# Altium schematic symbol library BEE-1012 PAY-EXP_V110.SCHLIB: 128 symbols (part 2 of 2)
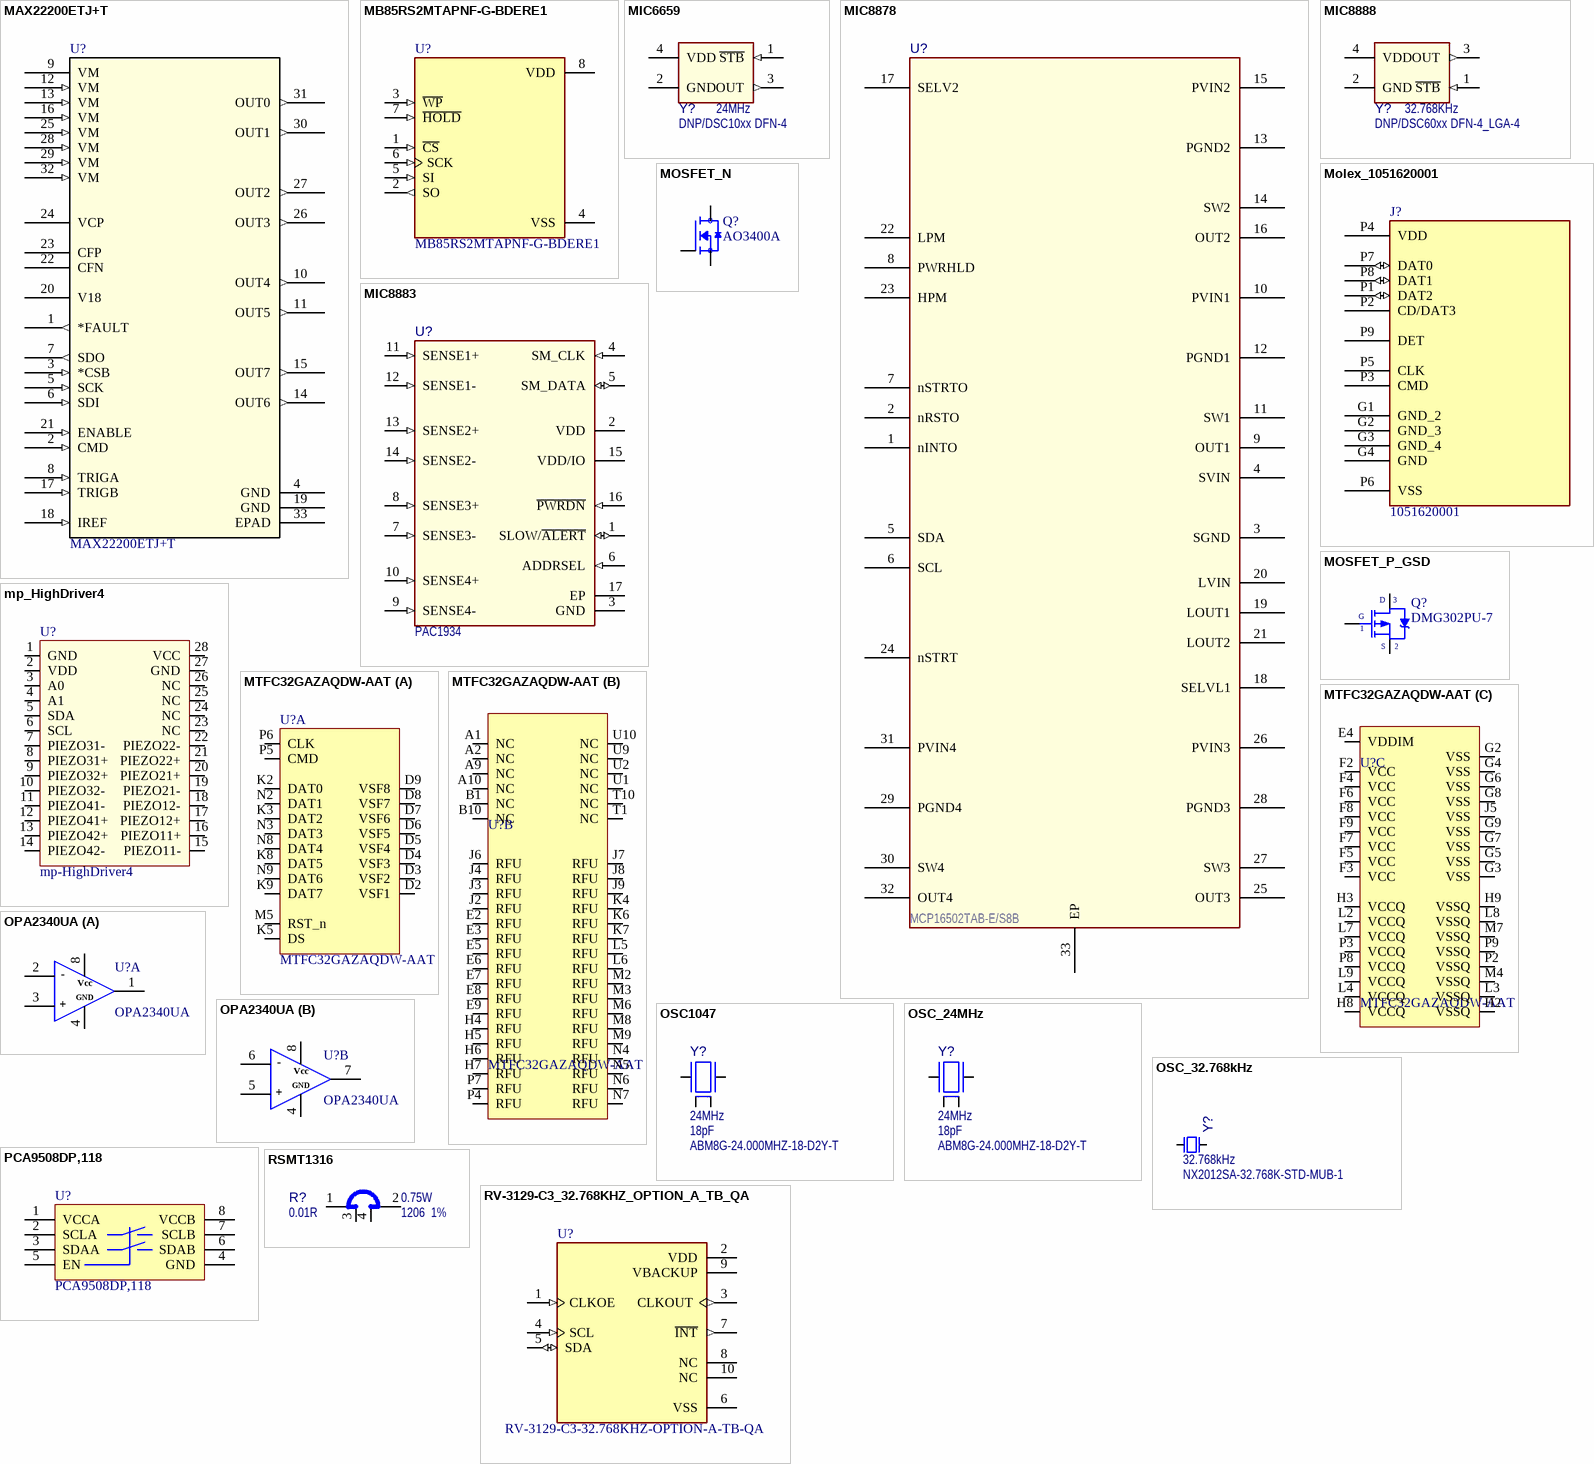
[diagram p6: symbols MAX22200ETJ+T to RV-3129-C3_32.768KHZ_OPTION_A_TB_QA]

## Molex_1051620001
designator J?, comment 1051620001
9 (8 + 1) Position Card Connector Secure Digital - microSDâ„¢ Surface Mount, Right Angle Gold; MF: Molex; SnapEDA_Link: https://www.snapeda.com/parts/1051620001/Molex/view-part/?ref=snap; Package: None; Value: *; MP: 1051620001; Check_prices: https://www.snapeda.com/parts/1051620001/Molex/view-part/?ref=eda
footprint Molex_1051620001
pins: G1 GND_2, G2 GND_3, G3 GND_4, G4 GND, P1 DAT2 (io), P2 CD/DAT3, P3 CMD, P4 VDD (power), P5 CLK, P6 VSS, P7 DAT0 (io), P8 DAT1 (io), P9 DET

## MOSFET_N
designator Q?, comment AO3400A
N-Channel 30 V 5.7A (Ta) 1.4W (Ta) Surface Mount SOT-23-3; MF: Alpha & Omega Semiconductor; SnapEDA_Link: https://www.snapeda.com/parts/AO3400A/Alpha/view-part/?ref=snap; Package: SOT-23 Alpha &amp; Omega Semiconductor Inc.; Value: *; MP: AO3400A; Check_prices: https://www.snapeda.com/parts/AO3400A/Alpha/view-part/?ref=eda
footprint SOT95P240X120-3N
pins: 1 G, 2 S, 3 D

## MOSFET_P_GSD
designator Q?, comment DMG302PU-7
footprint TO252-123
footprint SOT23-3-123
footprint SOT95P240X120-3N
footprint SOT23-3-213
pins: 1 G, 2 S, 3 D

## mp_HighDriver4
designator U?, comment mp-HighDriver4
footprint MP_HIGHDRIVER4
pins: 1 GND (power), 2 VDD (power), 3 A0, 4 A1, 5 SDA, 6 SCL, 7 PIEZO31-, 8 PIEZO31+, 9 PIEZO32+, 10 PIEZO32-, 11 PIEZO41-, 12 PIEZO41+, 13 PIEZO42+, 14 PIEZO42-, 15 PIEZO11-, 16 PIEZO11+, 17 PIEZO12+, 18 PIEZO12-, 19 PIEZO21-, 20 PIEZO21+, 21 PIEZO22+, 22 PIEZO22-, 23 NC, 24 NC, 25 NC, 26 NC, 27 GND (power), 28 VCC (power)

## MTFC32GAZAQDW-AAT
designator U?
footprint BGA_100_C_100P_10X17_1400X1800X150 (BGA, 100-Leads, Body 14.00x18.00mmx1.50mm, Pitch 1.00mm)
footprint BGA_100_C_100P_10X17_1400X1800X150 (BGA, 100-Leads, Body 14.00x18.00mmx1.50mm, Pitch 1.00mm)
part A pins: D2 VSF1, D3 VSF2, D4 VSF3, D5 VSF4, D6 VSF5, D7 VSF6, D8 VSF7, D9 VSF8, K2 DAT0, K3 DAT2, K5 DS, K8 DAT5, K9 DAT7, M5 RST_n, N2 DAT1, N3 DAT3, N8 DAT4, N9 DAT6, P5 CMD, P6 CLK
part B pins: A1 NC, A2 NC, A9 NC, A10 NC, B1 NC, B10 NC, E2 RFU, E3 RFU, E5 RFU, E6 RFU, E7 RFU, E8 RFU, E9 RFU, H4 RFU, H5 RFU, H6 RFU, H7 RFU, J2 RFU, J3 RFU, J4 RFU, J6 RFU, J7 RFU, J8 RFU, J9 RFU, K4 RFU, K6 RFU, K7 RFU, L5 RFU, L6 RFU, M2 RFU, M3 RFU, M6 RFU, M8 RFU, M9 RFU, N4 RFU, N5 RFU, N6 RFU, N7 RFU, P4 RFU, P7 RFU, T1 NC, T10 NC, U1 NC, U2 NC, U9 NC, U10 NC
part C pins: E4 VDDIM, F2 VCC, F3 VCC, F4 VCC, F5 VCC, F6 VCC, F7 VCC, F8 VCC, F9 VCC, G2 VSS, G3 VSS, G4 VSS, G5 VSS, G6 VSS, G7 VSS, G8 VSS, G9 VSS, H2 VSSQ, H3 VCCQ, H8 VCCQ, H9 VSSQ, J5 VSS, L2 VCCQ, L3 VSSQ, L4 VCCQ, L7 VCCQ, L8 VSSQ, L9 VCCQ, M4 VSSQ, M7 VSSQ, P2 VSSQ, P3 VCCQ, P8 VCCQ, P9 VSSQ

## OPA2340UA
designator U?
footprint SOIC127P602X173-8N
part A pins: 1, 2, 3, 4, 8
part B pins: 4, 5, 6, 7, 8
part A text: -; Vcc; GND; +
part B text: -; Vcc; GND; +

## OSC1047
designator Y?, comment value 24MHz  Load Capacitance: 18pF  Manufacturer Part Number 1: ABM8G-24.000MHZ-18-D2Y-T  (hidden comment: Crystal 4 Pins)
Crystal; Manufacturer 1: Abracon Corporation; MCHP-ID: OSC1047; Description_: CRYSTAL 24MHz 18pF SMD ABM8G; Dev Tools Status: Production; Owner: Mark Loper; Populated: DNP; Revision: 1; Symbol: Crystal 4 Pins; Status: MCL Design; ComponentLink1URL: https://chn-vm-apps.microchip.com/mchprepo/parts/Datasheets/ABM8G.pdf; ComponentLink1Description: SVN Datasheet; ComponentLink2URL: C:\ALTIUM_WORK\00001_MCHP-CDB\Datasheets\ABM8G.pdf; ComponentLink2Description: Local Datasheet; ComponentLink3URL: C:\ALTIUM_WORK\00001_MCHP-CDB\Library\LibraryRefs\Crystal 4 Pins.SchLib; ComponentLink3Description: Open Symbol; ComponentLink4URL: C:\ALTIUM_WORK\00001_MCHP-CDB\Library\Footprints\CRYSTAL_ABM8G.PcbLib; ComponentLink4Description: Open Footprint; ComponentLink5Description: Open Footprint 2; ComponentLink6Description: Open Footprint 3; ComponentLink7Description: Open Footprint 4; Package: ABM8G; Type: Crystal; Category: Crystal/Oscillator; Supplier 1: Digi-Key; Supplier Part Number 1: 535-10273-1-ND; Quantity Override: 1
footprint CRYSTAL_ABM8G
pins: 1 Osc1, 2 GND (power), 3 Osc2, 4 GND (power)

## OSC_24MHz
designator Y?, comment value 24MHz  Load Capacitance: 18pF  Manufacturer Part Number 1: ABM8G-24.000MHZ-18-D2Y-T  (hidden comment: Crystal 4 Pins)
Crystal; Manufacturer 1: Abracon Corporation; MCHP-ID: OSC1047; Description_: CRYSTAL 24MHz 18pF SMD ABM8G; Dev Tools Status: Production; Owner: Mark Loper; Populated: DNP; Revision: 1; Symbol: Crystal 4 Pins; Status: MCL Design; ComponentLink1URL: https://chn-vm-apps.microchip.com/mchprepo/parts/Datasheets/ABM8G.pdf; ComponentLink1Description: SVN Datasheet; ComponentLink2URL: C:\ALTIUM_WORK\00001_MCHP-CDB\Datasheets\ABM8G.pdf; ComponentLink2Description: Local Datasheet; ComponentLink3URL: C:\ALTIUM_WORK\00001_MCHP-CDB\Library\LibraryRefs\Crystal 4 Pins.SchLib; ComponentLink3Description: Open Symbol; ComponentLink4URL: C:\ALTIUM_WORK\00001_MCHP-CDB\Library\Footprints\CRYSTAL_ABM8G.PcbLib; ComponentLink4Description: Open Footprint; ComponentLink5Description: Open Footprint 2; ComponentLink6Description: Open Footprint 3; ComponentLink7Description: Open Footprint 4; Package: ABM8G; Type: Crystal; Category: Crystal/Oscillator; Supplier 1: Digi-Key; Supplier Part Number 1: 535-10273-1-ND; Quantity Override: 1
footprint CRYSTAL_ABM8G
pins: 1 Osc1, 2 GND (power), 3 Osc2, 4 GND (power)

## OSC_32.768kHz
designator Y?, comment value 32.768kHz  Manufacturer Part Number 1: NX2012SA-32.768K-STD-MUB-1  (hidden comment: Crystal 2 Pins)
Crystal; Manufacturer 1: NDK; MCHP-ID: OSC1092; Description_: CRYSTAL 32.768kHz 12.5pF SMD NX2012SA; Dev Tools Status: Production; Owner: Jamus Griego; Tolerance: ±20ppm; Load Capacitance: 12.5pF; Populated: YES; Revision: 1; Symbol: Crystal 2 Pins; Status: MCL Design; ComponentLink1URL: https://chn-vm-apps.microchip.com/mchprepo/parts/Datasheets/c_NX2012SA-STD-MUB-1_e.pdf; ComponentLink1Description: SVN Datasheet; ComponentLink2URL: C:\ALTIUM_WORK\00001_MCHP-CDB\Datasheets\c_NX2012SA-STD-MUB-1_e.pdf; ComponentLink2Description: Local Datasheet; ComponentLink3URL: C:\ALTIUM_WORK\00001_MCHP-CDB\Library\LibraryRefs\Crystal 2 Pins.SchLib; ComponentLink3Description: Open Symbol; ComponentLink4URL: C:\ALTIUM_WORK\00001_MCHP-CDB\Library\Footprints\CRYSTAL_NX2012SA.PcbLib; ComponentLink4Description: Open Footprint; ComponentLink5Description: Open Footprint 2; ComponentLink6Description: Open Footprint 3; ComponentLink7Description: Open Footprint 4; Type: Crystal; Category: Crystal/Oscillator; Supplier 1: Digi-Key; Supplier Part Number 1: 644-1219-1-ND; Quantity Override: 1
footprint CRYSTAL_NX2012SA
pins: 1 Osc1, 2 Osc2

## PCA9508DP,118
designator U?
footprint TSOP8 (TSOP, 8-Leads, Body 3x3mm, Pitch 0.65mm, IPC High Density)
footprint tssop8 (TSSOP, 8-Leads, Body 3.00x4.40mm, Pitch 0.65mm, IPC Medium Density)
pins: 1 VCCA, 2 SCLA, 3 SDAA, 4 GND, 5 EN, 6 SDAB, 7 SCLB, 8 VCCB

## RSMT1316
designator R?, comment value 0.01R  Package: 1206  Tolerance: 1%  Power: 0.75W  (hidden comment: KRL1632E-M-R010-F-T5)
Shunt; Manufacturer 1: SUSUMU; MCHP-ID: RSMT1316; Symbol: Shunt 4 Pin; Description_: RES SHUNT MF 0.01R 1% 0.75W SMD 1206; Dev Tools Status: Design; Temperature Coeffcient: 50ppm/C; Current: 8A; Owner: Ciprian Abramov; Populated: YES; Revision: 1; Status: MCL Design; ComponentLink1URL: https://chn-vm-apps.microchip.com/mchprepo/parts/Datasheets/n_catalog_partition09_en.pdf; ComponentLink1Description: SVN Datasheet; ComponentLink2URL: C:\ALTIUM_WORK\00001_MCHP-CDB\Datasheets\n_catalog_partition09_en.pdf; ComponentLink2Description: Local Datasheet; ComponentLink3URL: C:\ALTIUM_WORK\00001_MCHP-CDB\Library\LibraryRefs\Shunt 4 Pin.SchLib; ComponentLink3Description: Open Symbol; ComponentLink4URL: C:\ALTIUM_WORK\00001_MCHP-CDB\Library\Footprints\RES_C_1206_SHUNT.PcbLib; ComponentLink4Description: Open Footprint; ComponentLink5Description: Open Footprint 2; ComponentLink6Description: Open Footprint 3; ComponentLink7Description: Open Footprint 4; Operating Temperature: -55C to +155C; Category: Resistor; Type: RES SMD; Composition: MF; Manufacturer Part Number 1: KRL1632E-M-R010-F-T5; Supplier 1: Digi-Key; Supplier Part Number 1: 408-1570-1-ND; Quantity Override: 1
footprint RES_C_1206_SHUNT
pins: 1, 2, 3, 4

## RV-3129-C3_32.768KHZ_OPTION_A_TB_QA
designator U?, comment RV-3129-C3-32.768KHZ-OPTION-A-TB-QA
Real-Time Clock Module, Temperature compensated, in 2.5 x 3.7 mm package; MF: Micro Crystal; MP: RV-3129-C3 32.768KHZ OPTION A TB QA; SnapEDA_Link: https://www.snapeda.com/parts/RV-3129-C3%2032.768KHZ%20OPTION%20A%20TB%20QA/Micro+Crystal/view-part/?ref=snap; Package: QFN-10 Micro Crystal; Value: *; Check_prices: https://www.snapeda.com/parts/RV-3129-C3%2032.768KHZ%20OPTION%20A%20TB%20QA/Micro+Crystal/view-part/?ref=eda
footprint IC_RV-3129-C3_32.768KHZ_OPTION_A_TB_QA
pins: 1 CLKOE (in), 2 VDD (power), 3 CLKOUT (out), 4 SCL (in), 5 SDA (io), 6 VSS (power), 7 ~{INT} (out), 8 NC, 9 VBACKUP (power), 10 NC

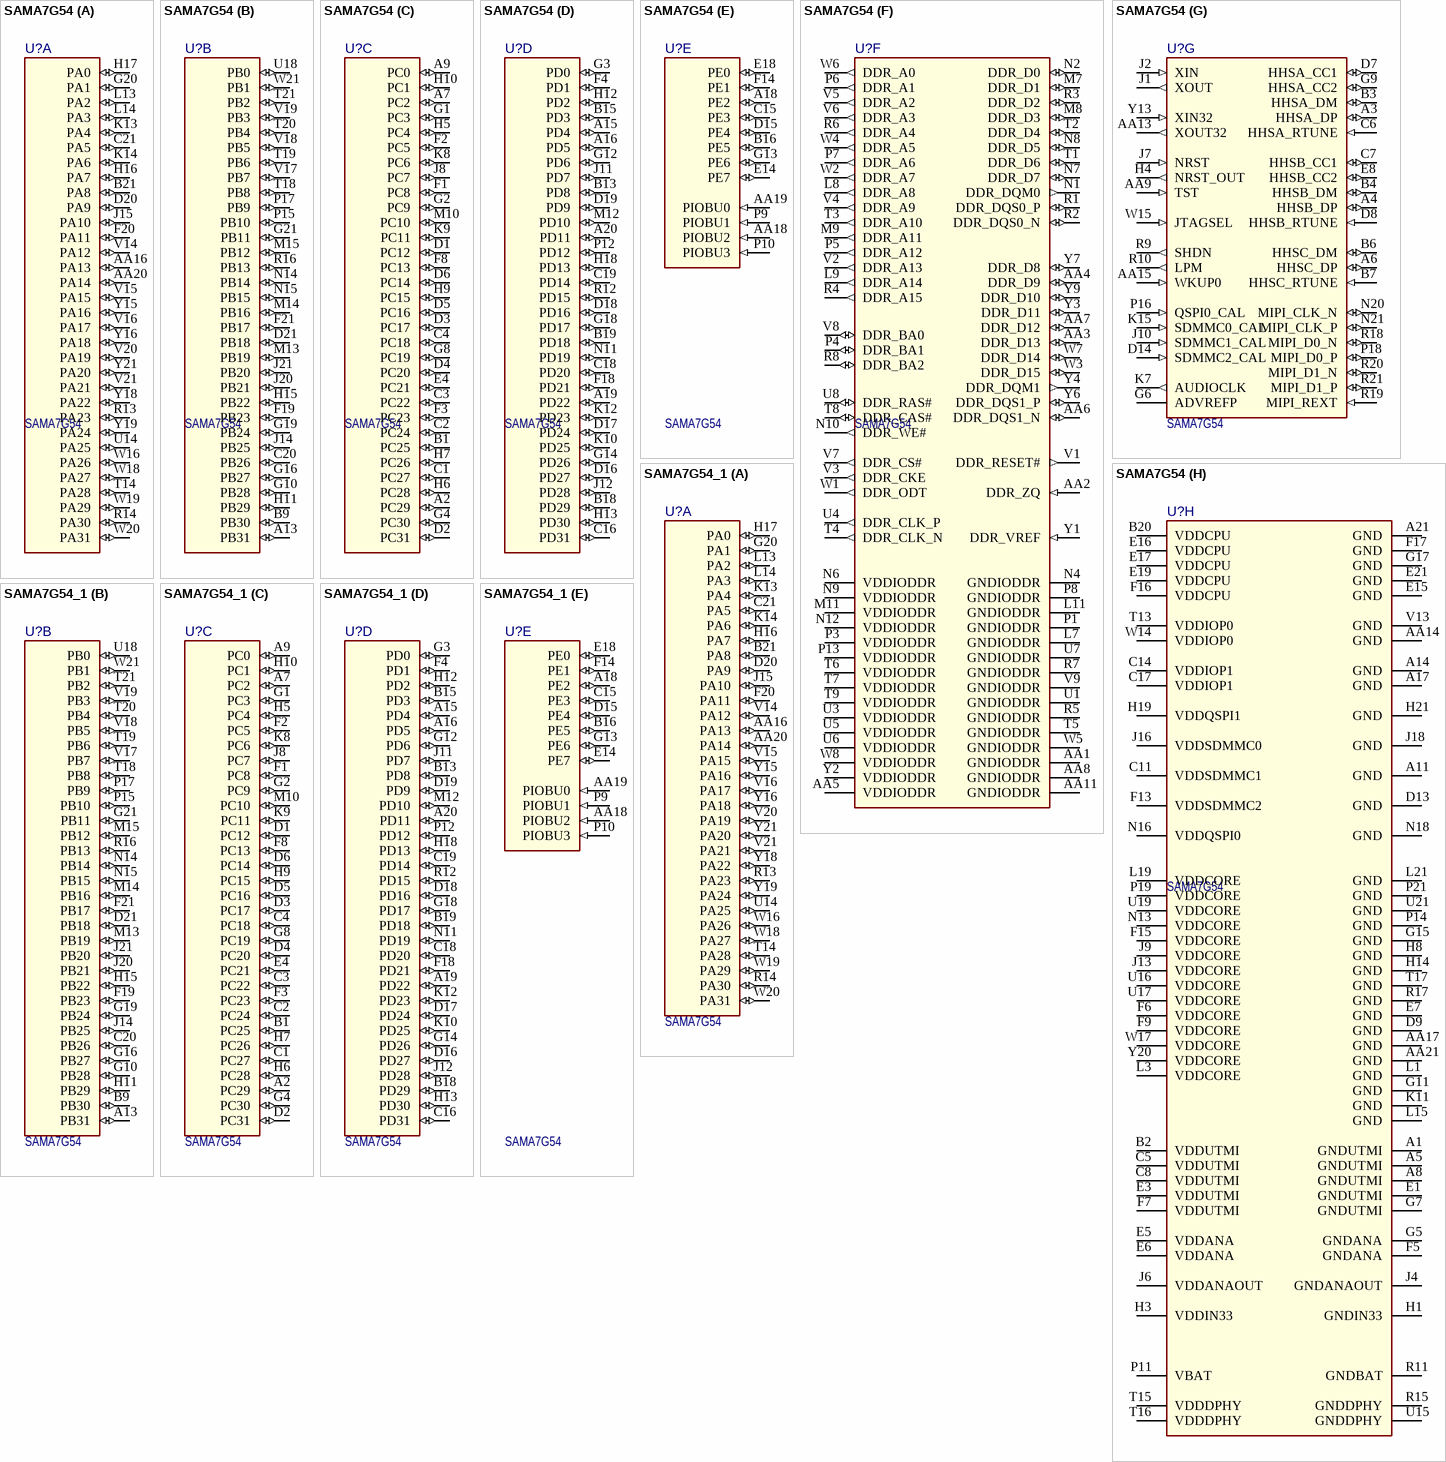
[diagram p4: symbols SAMA7G54 to SAMA7G54_1]

## SAMA7G54
designator U?
SAMA7G54 MPU 1000MHz Cortex-A7 TFBGA-343; Manufacturer Part Number 1: SAMA7G54-V/4HB; Manufacturer 1: Microchip; Description_: MCHP MPU 32-BIT Cortex-A7 1000MHz 128kB SAMA7G54-V/4HB TFBGA-343; Populated: YES; MCHP-ID: MIC8923; Symbol: SAMA7G54 TFBGA-343; Dev Tools Status: Design; Owner: Ciprian Abramov; Package: TFBGA-343; Value: SAMA7G54; Type: 32-Bit MPU; Status: MCL Design; Revision: 1; Category: MCHP-Microcontroller; ComponentLink1Description: SVN Datasheet; ComponentLink2Description: Local Datasheet; ComponentLink3URL: C:\ALTIUM_WORK\00001_MCHP-CDB\Library\LibraryRefs\SAMA7G54 TFBGA-343.SchLib; ComponentLink3Description: Open Symbol; ComponentLink4URL: C:\ALTIUM_WORK\00001_MCHP-CDB\Library\Footprints\TFBGA-343_14x14.PcbLib; ComponentLink4Description: Open Footprint; ComponentLink5Description: Open Footprint 2; ComponentLink6Description: Open Footprint 3; ComponentLink7Description: Open Footprint 4; Supplier 1: Microchip; Supplier Part Number 1: SAMA7G54-V/4HB; Quantity Override: 1
footprint TFBGA-343_14x14
footprint TFBGA-343_14x14 - 2.5mm (BGA, 343-Leads, Body 14,00mm x14,00mm, Pitch 0,65mm)
part A pins: AA16 PA13 (io), AA20 PA14 (io), B21 PA8 (io), C21 PA5 (io), D20 PA9 (io), F20 PA11 (io), G20 PA1 (io), H16 PA7 (io), H17 PA0 (io), J15 PA10 (io), K13 PA4 (io), K14 PA6 (io), L13 PA2 (io), L14 PA3 (io), R13 PA23 (io), R14 PA30 (io), T14 PA28 (io), U14 PA25 (io), V14 PA12 (io), V15 PA15 (io), V16 PA17 (io), V20 PA19 (io), V21 PA21 (io), W16 PA26 (io), W18 PA27 (io), W19 PA29 (io), W20 PA31 (io), Y15 PA16 (io), Y16 PA18 (io), Y18 PA22 (io), Y19 PA24 (io), Y21 PA20 (io)
part B pins: A13 PB31 (io), B9 PB30 (io), C20 PB26 (io), D21 PB18 (io), F19 PB23 (io), F21 PB17 (io), G10 PB28 (io), G16 PB27 (io), G19 PB24 (io), G21 PB11 (io), H11 PB29 (io), H15 PB22 (io), J14 PB25 (io), J20 PB21 (io), J21 PB20 (io), M13 PB19 (io), M14 PB16 (io), M15 PB12 (io), N14 PB14 (io), N15 PB15 (io), P15 PB10 (io), P17 PB9 (io), R16 PB13 (io), T18 PB8 (io), T19 PB6 (io), T20 PB4 (io), T21 PB2 (io), U18 PB0 (io), V17 PB7 (io), V18 PB5 (io), V19 PB3 (io), W21 PB1 (io)
part C pins: A2 PC29 (io), A7 PC2 (io), A9 PC0 (io), B1 PC25 (io), C1 PC27 (io), C2 PC24 (io), C3 PC22 (io), C4 PC18 (io), D1 PC12 (io), D2 PC31 (io), D3 PC17 (io), D4 PC20 (io), D5 PC16 (io), D6 PC14 (io), E4 PC21 (io), F1 PC8 (io), F2 PC5 (io), F3 PC23 (io), F8 PC13 (io), G1 PC3 (io), G2 PC9 (io), G4 PC30 (io), G8 PC19 (io), H5 PC4 (io), H6 PC28 (io), H7 PC26 (io), H9 PC15 (io), H10 PC1 (io), J8 PC7 (io), K8 PC6 (io), K9 PC11 (io), M10 PC10 (io)
part D pins: A15 PD4 (io), A16 PD5 (io), A19 PD22 (io), A20 PD11 (io), B13 PD8 (io), B15 PD3 (io), B18 PD29 (io), B19 PD18 (io), C16 PD31 (io), C18 PD20 (io), C19 PD14 (io), D16 PD27 (io), D17 PD24 (io), D18 PD16 (io), D19 PD9 (io), F4 PD1 (io), F18 PD21 (io), G3 PD0 (io), G12 PD6 (io), G14 PD26 (io), G18 PD17 (io), H12 PD2 (io), H13 PD30 (io), H18 PD13 (io), J11 PD7 (io), J12 PD28 (io), K10 PD25 (io), K12 PD23 (io), M12 PD10 (io), N11 PD19 (io), P12 PD12 (io), R12 PD15 (io)
part E pins: A18 PE2 (io), AA18 PIOBU2 (in), AA19 PIOBU0 (in), B16 PE5 (io), C15 PE3 (io), D15 PE4 (io), E14 PE7 (io), E18 PE0 (io), F14 PE1 (io), G13 PE6 (io), P9 PIOBU1 (in), P10 PIOBU3 (in)
part F pins: AA1 GNDIODDR (power), AA2 DDR_ZQ (in), AA3 DDR_D13 (io), AA4 DDR_D9 (io), AA5 VDDIODDR (power), AA6 DDR_DQS1_N (io), AA7 DDR_D12 (io), AA8 GNDIODDR (power), AA11 GNDIODDR (power), L7 GNDIODDR (power), L8 DDR_A8 (out), L9 DDR_A14 (out), L11 GNDIODDR (power), M7 DDR_D1 (io), M8 DDR_D3 (io), M9 DDR_A11 (out), M11 VDDIODDR (power), N1 DDR_DQM0 (out), N2 DDR_D0 (io), N4 GNDIODDR (power), N6 VDDIODDR (power), N7 DDR_D7 (io), N8 DDR_D5 (io), N9 VDDIODDR (power), N10 DDR_WE# (out), N12 VDDIODDR (power), P1 GNDIODDR (power), P3 VDDIODDR (power), P4 DDR_BA1 (io), P5 DDR_A12 (out), P6 DDR_A1 (out), P7 DDR_A6 (out), P8 GNDIODDR (power), P13 VDDIODDR (power), R1 DDR_DQS0_P (io), R2 DDR_DQS0_N (io), R3 DDR_D2 (io), R4 DDR_A15 (out), R5 GNDIODDR (power), R6 DDR_A4 (out), R7 GNDIODDR (power), R8 DDR_BA2 (io), T1 DDR_D6 (io), T2 DDR_D4 (io), T3 DDR_A10 (out), T4 DDR_CLK_N (out), T5 GNDIODDR (power), T6 VDDIODDR (power), T7 VDDIODDR (power), T8 DDR_CAS# (io), T9 VDDIODDR (power), U1 GNDIODDR (power), U3 VDDIODDR (power), U4 DDR_CLK_P (out), U5 VDDIODDR (power), U6 VDDIODDR (power), U7 GNDIODDR (power), U8 DDR_RAS# (io), V1 DDR_RESET# (out), V2 DDR_A13 (out), V3 DDR_CKE (out), V4 DDR_A9 (out), V5 DDR_A2 (out), V6 DDR_A3 (out), V7 DDR_CS# (out), V8 DDR_BA0 (io), V9 GNDIODDR (power), W1 DDR_ODT (out), W2 DDR_A7 (out), W3 DDR_D15 (io), W4 DDR_A5 (out), W5 GNDIODDR (power), W6 DDR_A0 (out), W7 DDR_D14 (io), W8 VDDIODDR (power), Y1 DDR_VREF (in), Y2 VDDIODDR (power), Y3 DDR_D11 (io), Y4 DDR_DQM1 (out), Y6 DDR_DQS1_P (io), Y7 DDR_D8 (io), Y9 DDR_D10 (io)
part G pins: A3 HHSA_DP (io), A4 HHSB_DP (io), A6 HHSC_DP (io), AA9 TST (in), AA13 XOUT32 (out), AA15 WKUP0 (in), B3 HHSA_DM (io), B4 HHSB_DM (io), B6 HHSC_DM (io), B7 HHSC_RTUNE (in), C6 HHSA_RTUNE (in), C7 HHSB_CC1 (io), D7 HHSA_CC1 (io), D8 HHSB_RTUNE (in), D14 SDMMC2_CAL (in), E8 HHSB_CC2 (io), G6 ADVREFP (power), G9 HHSA_CC2 (io), H4 NRST_OUT (out), J1 XOUT (out), J2 XIN (in), J7 NRST (in), J10 SDMMC1_CAL (in), K7 AUDIOCLK (out), K15 SDMMC0_CAL (in), N20 MIPI_CLK_N (io), N21 MIPI_CLK_P (io), P16 QSPI0_CAL (in), P18 MIPI_D0_P (io), R9 SHDN (out), R10 LPM (out), R18 MIPI_D0_N (io), R19 MIPI_REXT (in), R20 MIPI_D1_N (io), R21 MIPI_D1_P (io), W15 JTAGSEL (in), Y13 XIN32 (in)
part H pins: A1 GNDUTMI (power), A5 GNDUTMI (power), A8 GNDUTMI (power), A11 GND (power), A14 GND (power), A17 GND (power), A21 GND (power), AA14 GND (power), AA17 GND (power), AA21 GND (power), B2 VDDUTMI (power), B20 VDDCPU (power), C5 VDDUTMI (power), C8 VDDUTMI (power), C11 VDDSDMMC1 (power), C14 VDDIOP1 (power), C17 VDDIOP1 (power), D9 GND (power), D13 GND (power), E1 GNDUTMI (power), E3 VDDUTMI (power), E5 VDDANA (power), E6 VDDANA (power), E7 GND (power), E15 GND (power), E16 VDDCPU (power), E17 VDDCPU (power), E19 VDDCPU (power), E21 GND (power), F5 GNDANA (power), F6 VDDCORE (power), F7 VDDUTMI (power), F9 VDDCORE (power), F13 VDDSDMMC2 (power), F15 VDDCORE (power), F16 VDDCPU (power), F17 GND (power), G5 GNDANA (power), G7 GNDUTMI (power), G11 GND (power), G15 GND (power), G17 GND (power), H1 GNDIN33 (power), H3 VDDIN33 (power), H8 GND (power), H14 GND (power), H19 VDDQSPI1 (power), H21 GND (power), J4 GNDANAOUT (power), J6 VDDANAOUT (power), J9 VDDCORE (power), J13 VDDCORE (power), J16 VDDSDMMC0 (power), J18 GND (power), K11 GND (power), L1 GND (power), L3 VDDCORE (power), L15 GND (power), L19 VDDCORE (power), L21 GND (power), N13 VDDCORE (power), N16 VDDQSPI0 (power), N18 GND (power), P11 VBAT (power), P14 GND (power), P19 VDDCORE (power), P21 GND (power), R11 GNDBAT (power), R15 GNDDPHY (power), R17 GND (power), T13 VDDIOP0 (power), T15 VDDDPHY (power), T16 VDDDPHY (power), T17 GND (power), U15 GNDDPHY (power), U16 VDDCORE (power), U17 VDDCORE (power), U19 VDDCORE (power), U21 GND (power), V13 GND (power), W14 VDDIOP0 (power), W17 VDDCORE (power), Y20 VDDCORE (power)

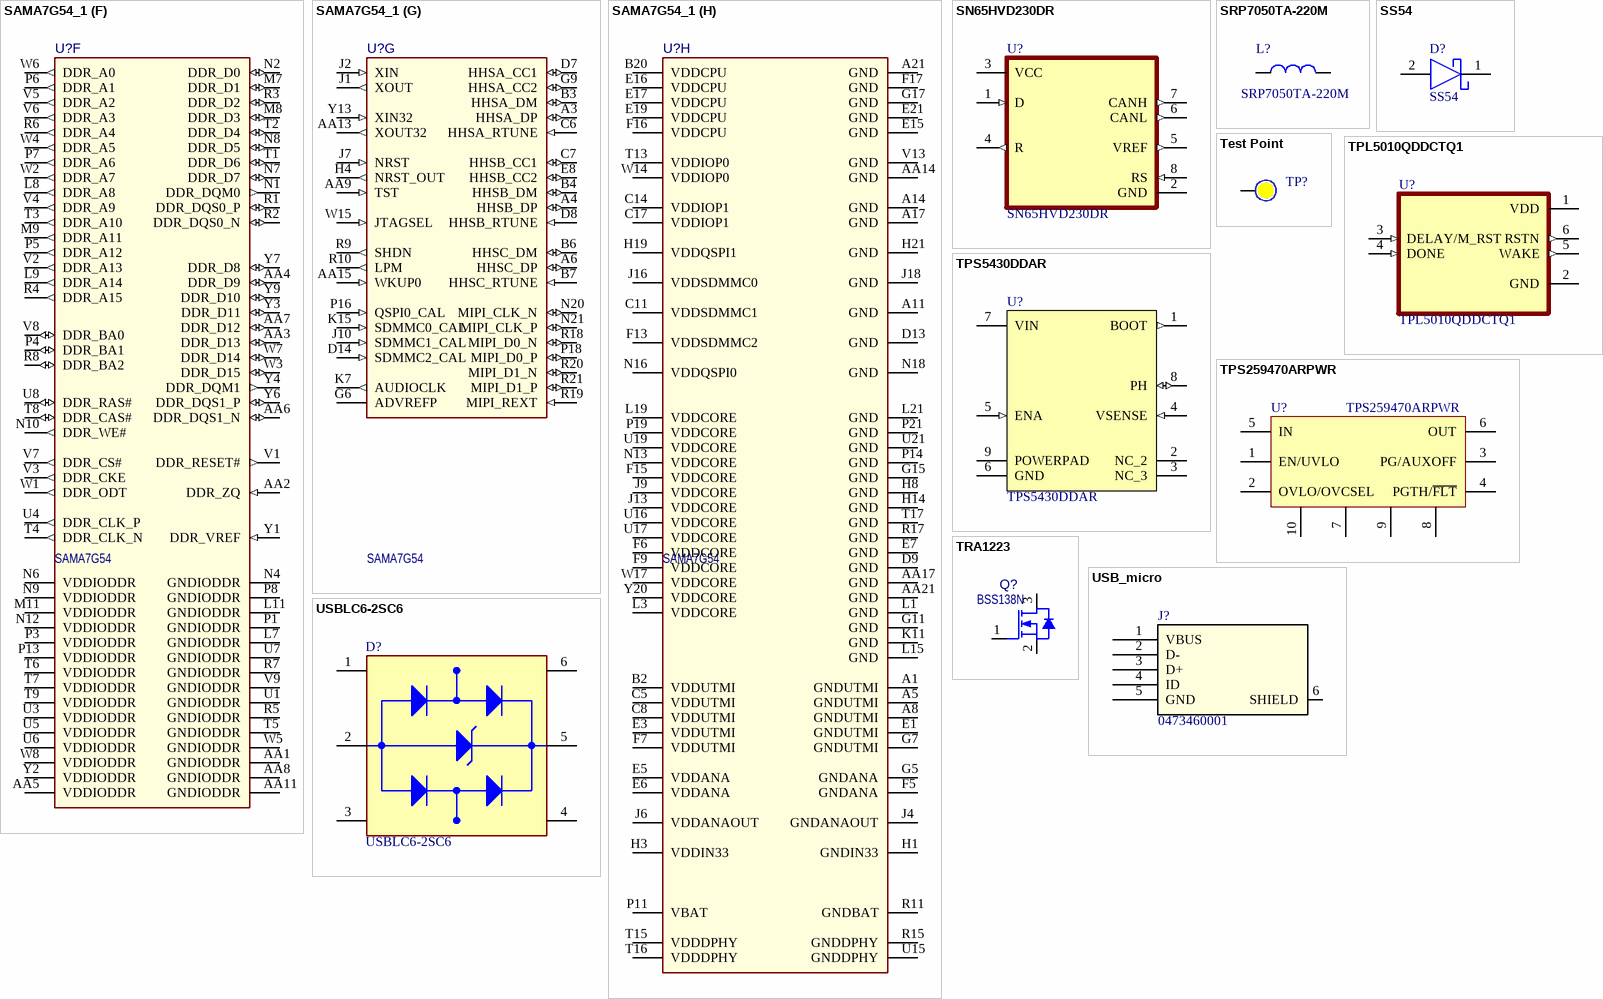
[diagram p5: symbols SAMA7G54_1 to USBLC6-2SC6]

## SAMA7G54_1
designator U?  value SAMA7G54
SAMA7G54 MPU 1000MHz Cortex-A7 TFBGA-343; Manufacturer Part Number 1: SAMA7G54-V/4HB; Manufacturer 1: Microchip; Description_: MCHP MPU 32-BIT Cortex-A7 1000MHz 128kB SAMA7G54-V/4HB TFBGA-343; Populated: YES; MCHP-ID: MIC8923; Symbol: SAMA7G54 TFBGA-343; Dev Tools Status: Design; Owner: Ciprian Abramov; Package: TFBGA-343; Type: 32-Bit MPU; Status: MCL Design; Revision: 1; Category: MCHP-Microcontroller; ComponentLink1Description: SVN Datasheet; ComponentLink2Description: Local Datasheet; ComponentLink3URL: C:\ALTIUM_WORK\00001_MCHP-CDB\Library\LibraryRefs\SAMA7G54 TFBGA-343.SchLib; ComponentLink3Description: Open Symbol; ComponentLink4URL: C:\ALTIUM_WORK\00001_MCHP-CDB\Library\Footprints\TFBGA-343_14x14.PcbLib; ComponentLink4Description: Open Footprint; ComponentLink5Description: Open Footprint 2; ComponentLink6Description: Open Footprint 3; ComponentLink7Description: Open Footprint 4; Supplier 1: Microchip; Supplier Part Number 1: SAMA7G54-V/4HB; Quantity Override: 1
footprint TFBGA-343_14x14
footprint TFBGA-343_14x14 - 2.5mm (BGA, 343-Leads, Body 14,00mm x14,00mm, Pitch 0,65mm)
part A pins: AA16 PA13 (io), AA20 PA14 (io), B21 PA8 (io), C21 PA5 (io), D20 PA9 (io), F20 PA11 (io), G20 PA1 (io), H16 PA7 (io), H17 PA0 (io), J15 PA10 (io), K13 PA4 (io), K14 PA6 (io), L13 PA2 (io), L14 PA3 (io), R13 PA23 (io), R14 PA30 (io), T14 PA28 (io), U14 PA25 (io), V14 PA12 (io), V15 PA15 (io), V16 PA17 (io), V20 PA19 (io), V21 PA21 (io), W16 PA26 (io), W18 PA27 (io), W19 PA29 (io), W20 PA31 (io), Y15 PA16 (io), Y16 PA18 (io), Y18 PA22 (io), Y19 PA24 (io), Y21 PA20 (io)
part B pins: A13 PB31 (io), B9 PB30 (io), C20 PB26 (io), D21 PB18 (io), F19 PB23 (io), F21 PB17 (io), G10 PB28 (io), G16 PB27 (io), G19 PB24 (io), G21 PB11 (io), H11 PB29 (io), H15 PB22 (io), J14 PB25 (io), J20 PB21 (io), J21 PB20 (io), M13 PB19 (io), M14 PB16 (io), M15 PB12 (io), N14 PB14 (io), N15 PB15 (io), P15 PB10 (io), P17 PB9 (io), R16 PB13 (io), T18 PB8 (io), T19 PB6 (io), T20 PB4 (io), T21 PB2 (io), U18 PB0 (io), V17 PB7 (io), V18 PB5 (io), V19 PB3 (io), W21 PB1 (io)
part C pins: A2 PC29 (io), A7 PC2 (io), A9 PC0 (io), B1 PC25 (io), C1 PC27 (io), C2 PC24 (io), C3 PC22 (io), C4 PC18 (io), D1 PC12 (io), D2 PC31 (io), D3 PC17 (io), D4 PC20 (io), D5 PC16 (io), D6 PC14 (io), E4 PC21 (io), F1 PC8 (io), F2 PC5 (io), F3 PC23 (io), F8 PC13 (io), G1 PC3 (io), G2 PC9 (io), G4 PC30 (io), G8 PC19 (io), H5 PC4 (io), H6 PC28 (io), H7 PC26 (io), H9 PC15 (io), H10 PC1 (io), J8 PC7 (io), K8 PC6 (io), K9 PC11 (io), M10 PC10 (io)
part D pins: A15 PD4 (io), A16 PD5 (io), A19 PD22 (io), A20 PD11 (io), B13 PD8 (io), B15 PD3 (io), B18 PD29 (io), B19 PD18 (io), C16 PD31 (io), C18 PD20 (io), C19 PD14 (io), D16 PD27 (io), D17 PD24 (io), D18 PD16 (io), D19 PD9 (io), F4 PD1 (io), F18 PD21 (io), G3 PD0 (io), G12 PD6 (io), G14 PD26 (io), G18 PD17 (io), H12 PD2 (io), H13 PD30 (io), H18 PD13 (io), J11 PD7 (io), J12 PD28 (io), K10 PD25 (io), K12 PD23 (io), M12 PD10 (io), N11 PD19 (io), P12 PD12 (io), R12 PD15 (io)
part E pins: A18 PE2 (io), AA18 PIOBU2 (in), AA19 PIOBU0 (in), B16 PE5 (io), C15 PE3 (io), D15 PE4 (io), E14 PE7 (io), E18 PE0 (io), F14 PE1 (io), G13 PE6 (io), P9 PIOBU1 (in), P10 PIOBU3 (in)
part F pins: AA1 GNDIODDR (power), AA2 DDR_ZQ (in), AA3 DDR_D13 (io), AA4 DDR_D9 (io), AA5 VDDIODDR (power), AA6 DDR_DQS1_N (io), AA7 DDR_D12 (io), AA8 GNDIODDR (power), AA11 GNDIODDR (power), L7 GNDIODDR (power), L8 DDR_A8 (out), L9 DDR_A14 (out), L11 GNDIODDR (power), M7 DDR_D1 (io), M8 DDR_D3 (io), M9 DDR_A11 (out), M11 VDDIODDR (power), N1 DDR_DQM0 (out), N2 DDR_D0 (io), N4 GNDIODDR (power), N6 VDDIODDR (power), N7 DDR_D7 (io), N8 DDR_D5 (io), N9 VDDIODDR (power), N10 DDR_WE# (out), N12 VDDIODDR (power), P1 GNDIODDR (power), P3 VDDIODDR (power), P4 DDR_BA1 (io), P5 DDR_A12 (out), P6 DDR_A1 (out), P7 DDR_A6 (out), P8 GNDIODDR (power), P13 VDDIODDR (power), R1 DDR_DQS0_P (io), R2 DDR_DQS0_N (io), R3 DDR_D2 (io), R4 DDR_A15 (out), R5 GNDIODDR (power), R6 DDR_A4 (out), R7 GNDIODDR (power), R8 DDR_BA2 (io), T1 DDR_D6 (io), T2 DDR_D4 (io), T3 DDR_A10 (out), T4 DDR_CLK_N (out), T5 GNDIODDR (power), T6 VDDIODDR (power), T7 VDDIODDR (power), T8 DDR_CAS# (io), T9 VDDIODDR (power), U1 GNDIODDR (power), U3 VDDIODDR (power), U4 DDR_CLK_P (out), U5 VDDIODDR (power), U6 VDDIODDR (power), U7 GNDIODDR (power), U8 DDR_RAS# (io), V1 DDR_RESET# (out), V2 DDR_A13 (out), V3 DDR_CKE (out), V4 DDR_A9 (out), V5 DDR_A2 (out), V6 DDR_A3 (out), V7 DDR_CS# (out), V8 DDR_BA0 (io), V9 GNDIODDR (power), W1 DDR_ODT (out), W2 DDR_A7 (out), W3 DDR_D15 (io), W4 DDR_A5 (out), W5 GNDIODDR (power), W6 DDR_A0 (out), W7 DDR_D14 (io), W8 VDDIODDR (power), Y1 DDR_VREF (in), Y2 VDDIODDR (power), Y3 DDR_D11 (io), Y4 DDR_DQM1 (out), Y6 DDR_DQS1_P (io), Y7 DDR_D8 (io), Y9 DDR_D10 (io)
part G pins: A3 HHSA_DP (io), A4 HHSB_DP (io), A6 HHSC_DP (io), AA9 TST (in), AA13 XOUT32 (out), AA15 WKUP0 (in), B3 HHSA_DM (io), B4 HHSB_DM (io), B6 HHSC_DM (io), B7 HHSC_RTUNE (in), C6 HHSA_RTUNE (in), C7 HHSB_CC1 (io), D7 HHSA_CC1 (io), D8 HHSB_RTUNE (in), D14 SDMMC2_CAL (in), E8 HHSB_CC2 (io), G6 ADVREFP (power), G9 HHSA_CC2 (io), H4 NRST_OUT (out), J1 XOUT (out), J2 XIN (in), J7 NRST (in), J10 SDMMC1_CAL (in), K7 AUDIOCLK (out), K15 SDMMC0_CAL (in), N20 MIPI_CLK_N (io), N21 MIPI_CLK_P (io), P16 QSPI0_CAL (in), P18 MIPI_D0_P (io), R9 SHDN (out), R10 LPM (out), R18 MIPI_D0_N (io), R19 MIPI_REXT (in), R20 MIPI_D1_N (io), R21 MIPI_D1_P (io), W15 JTAGSEL (in), Y13 XIN32 (in)
part H pins: A1 GNDUTMI (power), A5 GNDUTMI (power), A8 GNDUTMI (power), A11 GND (power), A14 GND (power), A17 GND (power), A21 GND (power), AA14 GND (power), AA17 GND (power), AA21 GND (power), B2 VDDUTMI (power), B20 VDDCPU (power), C5 VDDUTMI (power), C8 VDDUTMI (power), C11 VDDSDMMC1 (power), C14 VDDIOP1 (power), C17 VDDIOP1 (power), D9 GND (power), D13 GND (power), E1 GNDUTMI (power), E3 VDDUTMI (power), E5 VDDANA (power), E6 VDDANA (power), E7 GND (power), E15 GND (power), E16 VDDCPU (power), E17 VDDCPU (power), E19 VDDCPU (power), E21 GND (power), F5 GNDANA (power), F6 VDDCORE (power), F7 VDDUTMI (power), F9 VDDCORE (power), F13 VDDSDMMC2 (power), F15 VDDCORE (power), F16 VDDCPU (power), F17 GND (power), G5 GNDANA (power), G7 GNDUTMI (power), G11 GND (power), G15 GND (power), G17 GND (power), H1 GNDIN33 (power), H3 VDDIN33 (power), H8 GND (power), H14 GND (power), H19 VDDQSPI1 (power), H21 GND (power), J4 GNDANAOUT (power), J6 VDDANAOUT (power), J9 VDDCORE (power), J13 VDDCORE (power), J16 VDDSDMMC0 (power), J18 GND (power), K11 GND (power), L1 GND (power), L3 VDDCORE (power), L15 GND (power), L19 VDDCORE (power), L21 GND (power), N13 VDDCORE (power), N16 VDDQSPI0 (power), N18 GND (power), P11 VBAT (power), P14 GND (power), P19 VDDCORE (power), P21 GND (power), R11 GNDBAT (power), R15 GNDDPHY (power), R17 GND (power), T13 VDDIOP0 (power), T15 VDDDPHY (power), T16 VDDDPHY (power), T17 GND (power), U15 GNDDPHY (power), U16 VDDCORE (power), U17 VDDCORE (power), U19 VDDCORE (power), U21 GND (power), V13 GND (power), W14 VDDIOP0 (power), W17 VDDCORE (power), Y20 VDDCORE (power)

## SN65HVD230DR
designator U?
3.3 V CAN Transceiver with Standby Mode; MF: Texas Instruments; SnapEDA_Link: https://www.snapeda.com/parts/SN65HVD230DR/Texas+Instruments/view-part/?ref=snap; Package: SOIC-8 Texas Instruments; Value: *; MP: SN65HVD230DR; Check_prices: https://www.snapeda.com/parts/SN65HVD230DR/Texas+Instruments/view-part/?ref=eda
footprint SOIC127P600X175-8N
pins: 1 D (in), 2 GND (power), 3 VCC (power), 4 R (out), 5 VREF (out), 6 CANL (out), 7 CANH (out), 8 RS (in)

## SRP7050TA-220M
designator L?
FIXED IND 22UH 2.5A 170 MOHM SMD
footprint PSM6050
pins: 1, 2

## SS54
designator D?
DIODE SCHOTTKY 60V 3A DO214AA
footprint DO-214AC_SMA (Molded Diode, 2-Leads, Body 5.20x2.61mm, IPC Medium Density)
pins: 1, 2

## Test Point
designator TP?  (no BOM)
Test Point; Solder: NF
footprint Testpoint_50
footprint Testpoint_60
footprint Testpoint_70
footprint Testpoint_80
footprint Testpoint_TH_D130H80
footprint TP_1mm_SMD
pins: 1

## TPL5010QDDCTQ1
designator U?
Package: None; Price: None; Value: *; MP: TPL5010QDDCTQ1; Availability: Unavailable
footprint SOT95P280X145-6N
pins: 1 VDD (power), 2 GND (power), 3 DELAY/M_RST (in), 4 DONE (in), 5 WAKE (out), 6 RSTN (out)

## TPS5430DDAR
designator U?
IC REG BUCK ADJ 3A 8SOPWR
footprint TPS54531DDAR (IC REG BUCK ADJ 5A 8SOPWR)
pins: 1 BOOT (out), 2 NC_2, 3 NC_3, 4 VSENSE (in), 5 ENA (in), 6 GND (power), 7 VIN (power), 8 PH (io), 9 POWERPAD (power)

## TPS259470ARPWR
designator U?
footprint VQFN-HR-10
footprint VQFN-HR-10-EXP-V101
footprint VQFN-HR-10-EXP-V110
footprint VQFN-HR-10
pins: 1 EN/UVLO, 2 OVLO/OVCSEL, 3 PG/AUXOFF, 4 PGTH/~{FLT}, 5 IN, 6 OUT, 7, 8, 9, 10

## TRA1223
designator Q?, comment value BSS138N  (hidden comment: BSS138NH6327XTSA2)
Transistor MOS; Manufacturer 1: Infineon Technologies; MCHP-ID: TRA1223; Symbol: Transistor MOS-N GSD; Description_: TRANS FET N-CH BSS138N 60V 230mA SOT23-3; Dev Tools Status: Production; Type: FET; Current: 230mA; Drain to Source Voltage: 60V; Gate to Source Voltage: 20V; Power: 0.36W; Owner: Dragos Danaila; Populated: YES; Revision: 1; Status: MCL Design; Package: SOT23-3; ComponentLink1URL: https://chn-vm-apps.microchip.com/mchprepo/parts/Datasheets/Infineon-BSS138N-DS-v02_86-en.pdf; ComponentLink1Description: SVN Datasheet; ComponentLink2URL: C:\ALTIUM_WORK\00001_MCHP-CDB\Datasheets\Infineon-BSS138N-DS-v02_86-en.pdf; ComponentLink2Description: Local Datasheet; ComponentLink3URL: C:\ALTIUM_WORK\00001_MCHP-CDB\Library\LibraryRefs\Transistor MOS-N GSD.SchLib; ComponentLink3Description: Open Symbol; ComponentLink4URL: C:\ALTIUM_WORK\00001_MCHP-CDB\Library\Footprints\SOT-23-3.PcbLib; ComponentLink4Description: Open Footprint; ComponentLink5Description: Open Footprint 2; ComponentLink6Description: Open Footprint 3; ComponentLink7Description: Open Footprint 4; Operating Temperature: -55C to +150C; Category: Transistor; Voltage: 60V; Manufacturer Part Number 1: BSS138NH6327XTSA2; Supplier 1: Digi-Key; Supplier Part Number 1: BSS138NH6327XTSA2CT-ND; Quantity Override: 1
footprint SOT-23-3
pins: 1 G, 2 S, 3 D

## USB_micro
designator J?, comment 0473460001
No Description Available; Mfr_Name: Molex Connector Corporation; RefDes: RefDes; Type: Type
footprint 47346-0001_MOL
footprint 47346-0001_MOL
pins: 1 VBUS, 2 D-, 3 D+, 4 ID, 5 GND (power), 6 SHIELD

## USBLC6-2SC6
designator D?
17V Clamp 5A (8/20Âµs) Ipp Tvs Diode Surface Mount SOT-23-6; MF: STMicroelectronics; Value: *; SnapEDA_Link: https://www.snapeda.com/parts/USBLC6-2SC6/STMicroelectronics/view-part/?ref=snap; Check_prices: https://www.snapeda.com/parts/USBLC6-2SC6/STMicroelectronics/view-part/?ref=eda; Purchase-URL: https://pricing.snapeda.com/search/part/USBLC6-2SC6/?ref=eda; Price: None; Availability: In Stock; Package: SOT-23-6 STMicroelectronics; MP: USBLC6-2SC6
footprint SOT95P280X145-6N
pins: 1 I/O1_IN, 2 GND (power), 3 I/O2_IN, 4 I/O2_OUT, 5 VBUS (power), 6 I/O1_OUT